# Altium schematic symbol library PROGRAMMER_PAD.SchLib: 1 symbol
Pins are listed as number, name and electrical type; pins without a type are passive.

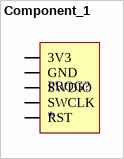
[diagram p0: symbol Component_1]

## Component_1
designator PROG?
pins: 1 3V3, 2 GND, 3 SWCLK, 4 SWDIO, 5 RST